# Altium schematic symbol library SCH - POWER - LINEAR VREG - TI TPS7A1601DRB.SchLib: 1 symbol
Pins are listed as number, name and electrical type; pins without a type are passive.

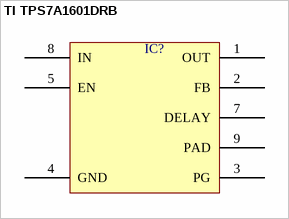
[diagram p0: symbol TI TPS7A1601DRB]

## TI TPS7A1601DRB
designator IC?  (value not drawn)
pins: 1 OUT, 2 FB, 3 PG, 4 GND, 5 EN, 7 DELAY, 8 IN, 9 PAD